# EAGLE library part ADAFRUIT_ESP8266 (library MS)
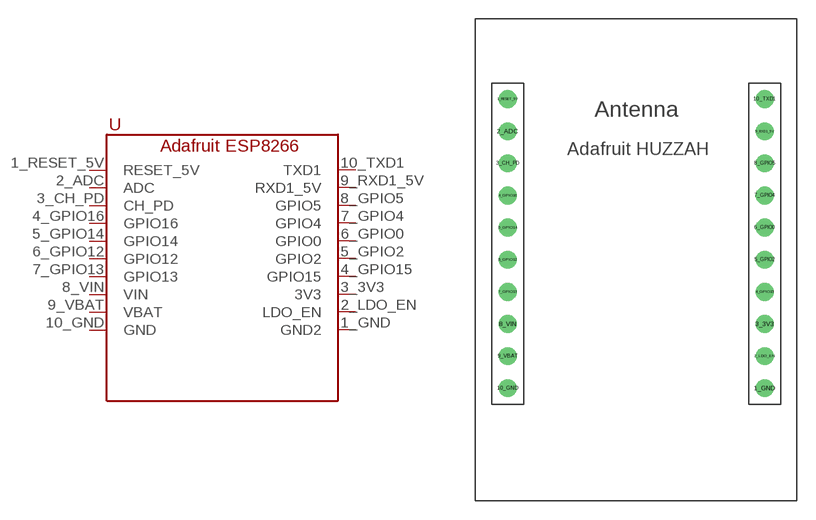
[diagram p0: symbol with the pads of ADAFRUIT_ESP8266; footprint ADAFRUIT_ESP8266]

Designator prefix -

## ADAFRUIT_ESP8266  [ADAFRUIT_ESP8266]
1_GND  GND2
1_RESET_5V  RESET_5V
2_ADC  ADC
2_LDO_EN  LDO_EN
3_3V3  3V3
3_CH_PD  CH_PD
4_GPIO15  GPIO15
4_GPIO16  GPIO16
5_GPIO2  GPIO2
5_GPIO14  GPIO14
6_GPIO0  GPIO0
6_GPIO12  GPIO12
7_GPIO4  GPIO4
7_GPIO13  GPIO13
8_GPIO5  GPIO5
8_VIN  VIN
9_RXD1_5V  RXD1_5V
9_VBAT  VBAT
10_GND  GND
10_TXD1  TXD1

## Footprint ADAFRUIT_ESP8266 (pad centres in mm)
drill 0.9: 1_GND 22.86,8.89; 1_RESET_5V 2.54,31.75; 2_ADC 2.54,29.21; 2_LDO_EN 22.86,11.43; 3_3V3 22.86,13.97; 3_CH_PD 2.54,26.67; 4_GPIO15 22.86,16.51; 4_GPIO16 2.54,24.13; 5_GPIO2 22.86,19.05; 5_GPIO14 2.54,21.59; 6_GPIO0 22.86,21.59; 6_GPIO12 2.54,19.05; 7_GPIO4 22.86,24.13; 7_GPIO13 2.54,16.51; 8_GPIO5 22.86,26.67; 8_VIN 2.54,13.97; 9_RXD1_5V 22.86,29.21; 9_VBAT 2.54,11.43; 10_GND 2.54,8.89; 10_TXD1 22.86,31.75